# Altium footprint library Synthiam-new.PcbLib: 262 footprints (part 5 of 17)
Each footprint in its own frame and in the unit in brackets; x right, y up, seen from the top. Pads: shape width x height; smd on the part's side, far side on the other; paste and mask are expansions set on the pad; w line width, h text height; cw(c..) or ccw(c..) is an arc to the next point about the centre after c.
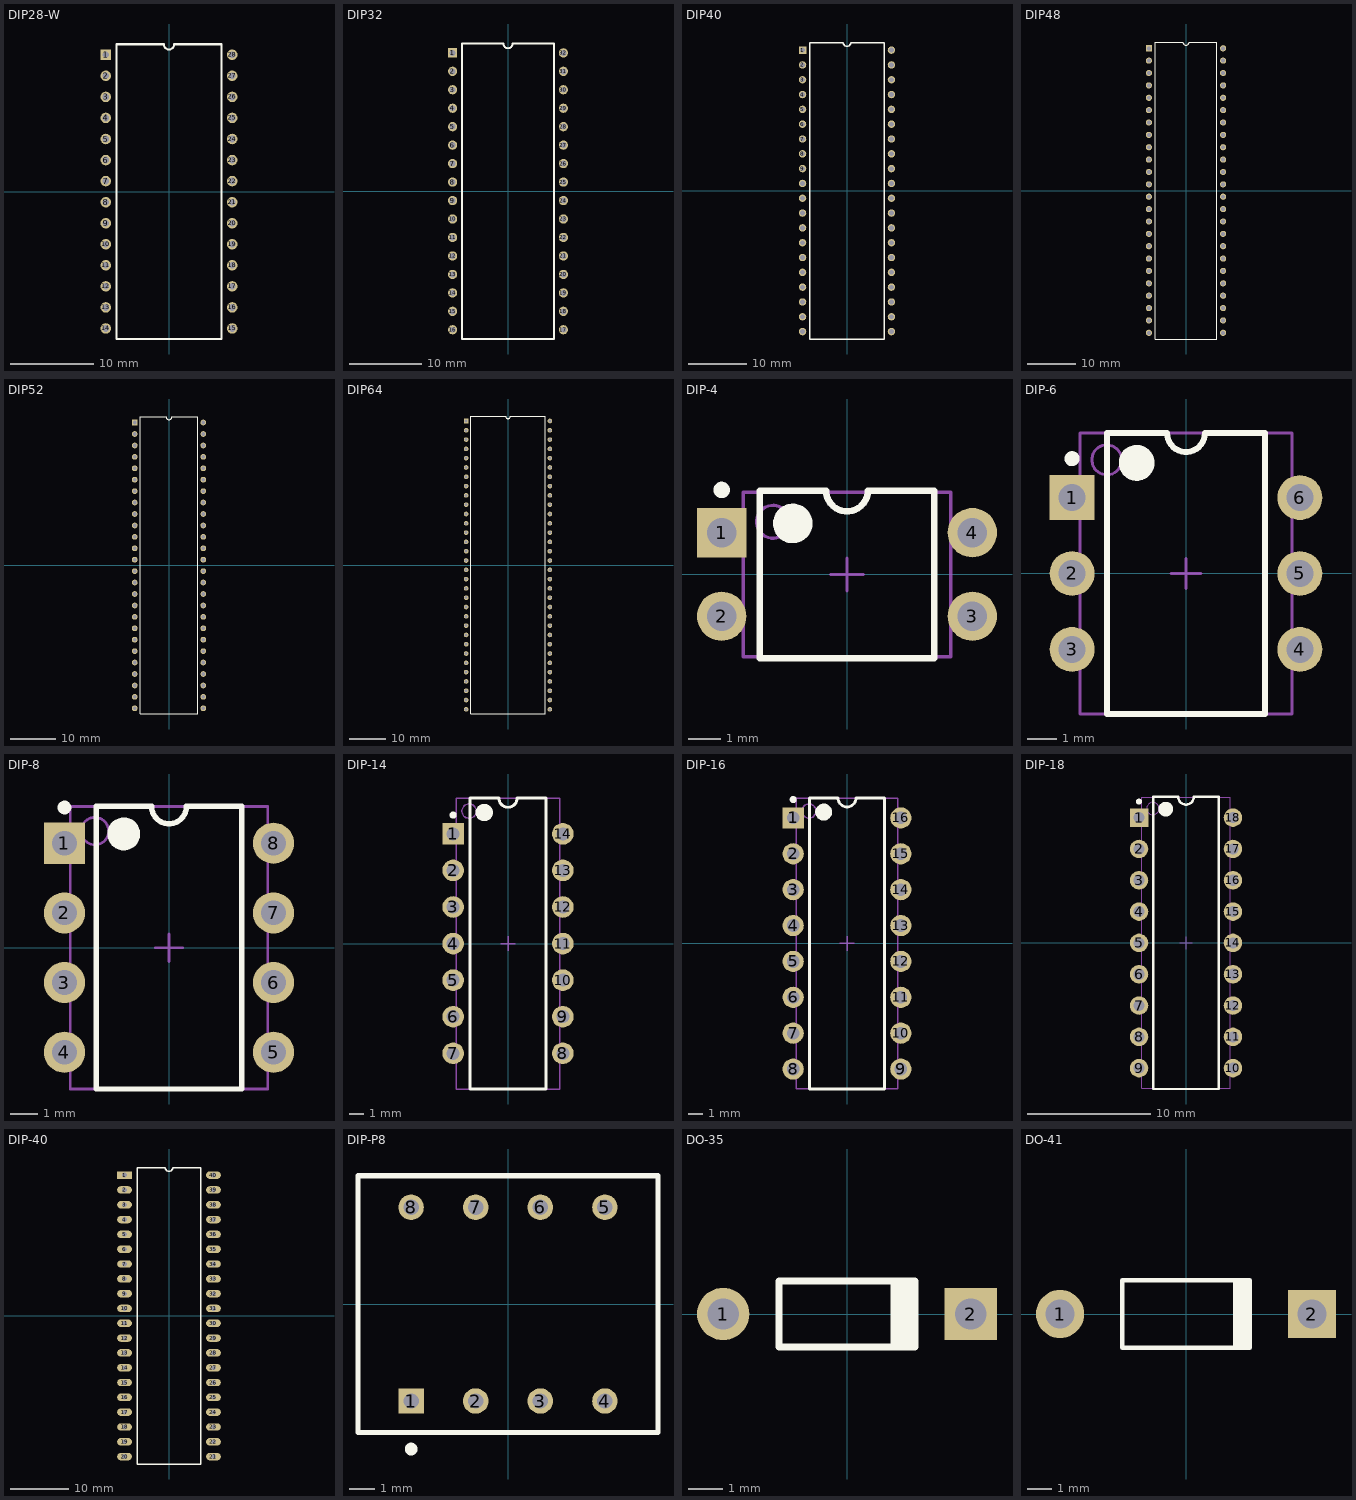
[diagram p4: the footprints below, top view; thin cyan lines are the x and y axes]

## DIP28-W [mil]
pads (28):
  rect 50x50 hole 32: 1(-300,650)
  round 50 hole 32: 2(-300,550) 3(-300,450) 4(-300,350) 5(-300,250) 6(-300,150) 7(-300,50) 8(-300,-50) 9(-300,-150) 10(-300,-250) 11(-300,-350) 12(-300,-450) 13(-300,-550) 14(-300,-650) 15(300,-650) 16(300,-550) 17(300,-450) 18(300,-350) 19(300,-250) 20(300,-150) 21(300,-50) 22(300,50) 23(300,150) 24(300,250) 25(300,350) 26(300,450) 27(300,550) 28(300,650)
Top Overlay:
  lines w10: -250,-700 250,-700 250,700 25,700 cw(c0,700) -25,700 -250,700 -250,-700

## DIP32 [mil]
pads (32):
  rect 50x50 hole 32: 1(-300,750)
  round 50 hole 32: 2(-300,650) 3(-300,550) 4(-300,450) 5(-300,350) 6(-300,250) 7(-300,150) 8(-300,50) 9(-300,-50) 10(-300,-150) 11(-300,-250) 12(-300,-350) 13(-300,-450) 14(-300,-550) 15(-300,-650) 16(-300,-750) 17(300,-750) 18(300,-650) 19(300,-550) 20(300,-450) 21(300,-350) 22(300,-250) 23(300,-150) 24(300,-50) 25(300,50) 26(300,150) 27(300,250) 28(300,350) 29(300,450) 30(300,550) 31(300,650) 32(300,750)
Top Overlay:
  lines w10: -250,-800 250,-800 250,800 25,800 cw(c0,800) -25,800 -250,800 -250,-800

## DIP40 [mil]
pads (40):
  rect 50x50 hole 32: 1(-300,950)
  round 50 hole 32: 2(-300,850) 3(-300,750) 4(-300,650) 5(-300,550) 6(-300,450) 7(-300,350) 8(-300,250) 9(-300,150) 10(-300,50) 11(-300,-50) 12(-300,-150) 13(-300,-250) 14(-300,-350) 15(-300,-450) 16(-300,-550) 17(-300,-650) 18(-300,-750) 19(-300,-850) 20(-300,-950) 21(300,-950) 22(300,-850) 23(300,-750) 24(300,-650) 25(300,-550) 26(300,-450) 27(300,-350) 28(300,-250) 29(300,-150) 30(300,-50) 31(300,50) 32(300,150) 33(300,250) 34(300,350) 35(300,450) 36(300,550) 37(300,650) 38(300,750) 39(300,850) 40(300,950)
Top Overlay:
  lines w10: -250,-1000 -250,1000 -25,1000 ccw(c0,1000) 25,1000 250,1000 250,-1000 -250,-1000

## DIP48 [mil]
pads (48):
  rect 50x50 hole 32: 1(-300,1150)
  round 50 hole 32: 2(-300,1050) 3(-300,950) 4(-300,850) 5(-300,750) 6(-300,650) 7(-300,550) 8(-300,450) 9(-300,350) 10(-300,250) 11(-300,150) 12(-300,50) 13(-300,-50) 14(-300,-150) 15(-300,-250) 16(-300,-350) 17(-300,-450) 18(-300,-550) 19(-300,-650) 20(-300,-750) 21(-300,-850) 22(-300,-950) 23(-300,-1050) 24(-300,-1150) 25(300,-1150) 26(300,-1050) 27(300,-950) 28(300,-850) 29(300,-750) 30(300,-650) 31(300,-550) 32(300,-450) 33(300,-350) 34(300,-250) 35(300,-150) 36(300,-50) 37(300,50) 38(300,150) 39(300,250) 40(300,350) 41(300,450) 42(300,550) 43(300,650) 44(300,750) 45(300,850) 46(300,950) 47(300,1050) 48(300,1150)
Top Overlay:
  lines w10: -250,-1200 250,-1200 250,1200 25,1200 cw(c0,1200) -25,1200 -250,1200 -250,-1200

## DIP52 [mil]
pads (52):
  rect 50x50 hole 32: 1(-300,1250)
  round 50 hole 32: 2(-300,1150) 3(-300,1050) 4(-300,950) 5(-300,850) 6(-300,750) 7(-300,650) 8(-300,550) 9(-300,450) 10(-300,350) 11(-300,250) 12(-300,150) 13(-300,50) 14(-300,-50) 15(-300,-150) 16(-300,-250) 17(-300,-350) 18(-300,-450) 19(-300,-550) 20(-300,-650) 21(-300,-750) 22(-300,-850) 23(-300,-950) 24(-300,-1050) 25(-300,-1150) 26(-300,-1250) 27(300,-1250) 28(300,-1150) 29(300,-1050) 30(300,-950) 31(300,-850) 32(300,-750) 33(300,-650) 34(300,-550) 35(300,-450) 36(300,-350) 37(300,-250) 38(300,-150) 39(300,-50) 40(300,50) 41(300,150) 42(300,250) 43(300,350) 44(300,450) 45(300,550) 46(300,650) 47(300,750) 48(300,850) 49(300,950) 50(300,1050) 51(300,1150) 52(300,1250)
Top Overlay:
  lines w10: -250,-1300 -250,1300 -25,1300 ccw(c0,1300) 25,1300 250,1300 250,-1300 -250,-1300

## DIP64 [mil]
pads (64):
  rect 50x50 hole 32: 1(-450,1550)
  round 50 hole 32: 2(-450,1450) 3(-450,1350) 4(-450,1250) 5(-450,1150) 6(-450,1050) 7(-450,950) 8(-450,850) 9(-450,750) 10(-450,650) 11(-450,550) 12(-450,450) 13(-450,350) 14(-450,250) 15(-450,150) 16(-450,50) 17(-450,-50) 18(-450,-150) 19(-450,-250) 20(-450,-350) 21(-450,-450) 22(-450,-550) 23(-450,-650) 24(-450,-750) 25(-450,-850) 26(-450,-950) 27(-450,-1050) 28(-450,-1150) 29(-450,-1250) 30(-450,-1350) 31(-450,-1450) 32(-450,-1550) 33(450,-1550) 34(450,-1450) 35(450,-1350) 36(450,-1250) 37(450,-1150) 38(450,-1050) 39(450,-950) 40(450,-850) 41(450,-750) 42(450,-650) 43(450,-550) 44(450,-450) 45(450,-350) 46(450,-250) 47(450,-150) 48(450,-50) 49(450,50) 50(450,150) 51(450,250) 52(450,350) 53(450,450) 54(450,550) 55(450,650) 56(450,750) 57(450,850) 58(450,950) 59(450,1050) 60(450,1150) 61(450,1250) 62(450,1350) 63(450,1450) 64(450,1550)
Top Overlay:
  lines w10: -400,-1600 -400,1600 -25,1600 ccw(c0,1600) 25,1600 400,1600 400,-1600 -400,-1600

## DIP-4 [mm]
pads (4):
  rect 1.5x1.5 hole 0.9: 1(-3.81,1.27)
  round 1.5 hole 0.9: 2(-3.81,-1.27) 3(3.81,-1.27) 4(3.81,1.27)
Top Overlay:
  circle w0.6: c-1.65,1.55 r0.3
  circle w0.25: c-3.81,2.57 r0.125
  lines w0.2: -2.65,-2.55 2.65,-2.55 2.65,2.55 0.635,2.55 cw(c0,2.55) -0.635,2.55 -2.65,2.55 -2.65,-2.55
Mechanical 13:
  circle w0.1: c-2.25,1.6 r0.5
  lines w0.1: -3.15,-2.5 3.15,-2.5 3.15,2.5 -3.15,2.5 -3.15,-2.5
Mechanical 15:
  lines w0.1: -0.5,0 0.5,0 ; 0,-0.5 0,0.5

## DIP-6 [mm]
pads (6):
  rect 1.5x1.5 hole 0.9: 1(-3.81,2.54)
  round 1.5 hole 0.9: 2(-3.81,0) 3(-3.81,-2.54) 4(3.81,-2.54) 5(3.81,0) 6(3.81,2.54)
Top Overlay:
  circle w0.6: c-1.65,3.7 r0.3
  circle w0.25: c-3.81,3.84 r0.125
  lines w0.2: -2.65,-4.7 2.65,-4.7 2.65,4.7 0.635,4.7 cw(c0,4.7) -0.635,4.7 -2.65,4.7 -2.65,-4.7
Mechanical 13:
  circle w0.1: c-2.65,3.8 r0.5
  lines w0.1: -3.55,-4.7 3.55,-4.7 3.55,4.7 -3.55,4.7 -3.55,-4.7
Mechanical 15:
  lines w0.1: -0.5,0 0.5,0 ; 0,-0.5 0,0.5

## DIP-8 [mm]
pads (8):
  rect 1.5x1.5 hole 0.9: 1(-3.81,3.81)
  round 1.5 hole 0.9: 2(-3.81,1.27) 3(-3.81,-1.27) 4(-3.81,-3.81) 5(3.81,-3.81) 6(3.81,-1.27) 7(3.81,1.27) 8(3.81,3.81)
Top Overlay:
  circle w0.25: c-3.81,5.11 r0.125
  circle w0.6: c-1.65,4.15 r0.3
  lines w0.2: -2.65,-5.15 -2.65,5.15 -0.635,5.15 ccw(c0,5.15) 0.635,5.15 2.65,5.15 2.65,-5.15 -2.65,-5.15
Mechanical 13:
  circle w0.1: c-2.7,4.25 r0.5
  lines w0.1: -3.6,-5.15 -3.6,5.15 3.6,5.15 3.6,-5.15 -3.6,-5.15
Mechanical 15:
  lines w0.1: -0.5,0 0.5,0 ; 0,-0.5 0,0.5

## DIP-14 [mm]
pads (14):
  rect 1.5x1.5 hole 0.9: 1(-3.81,7.62)
  round 1.5 hole 0.9: 2(-3.81,5.08) 3(-3.81,2.54) 4(-3.81,0) 5(-3.81,-2.54) 6(-3.81,-5.08) 7(-3.81,-7.62) 8(3.81,-7.62) 9(3.81,-5.08) 10(3.81,-2.54) 11(3.81,0) 12(3.81,2.54) 13(3.81,5.08) 14(3.81,7.62)
Top Overlay:
  circle w0.6: c-1.65,9.1 r0.3
  circle w0.25: c-3.81,8.92 r0.125
  lines w0.2: -2.65,-10.1 2.65,-10.1 2.65,10.1 0.635,10.1 cw(c0,10.1) -0.635,10.1 -2.65,10.1 -2.65,-10.1
Mechanical 13:
  circle w0.1: c-2.7,9.2 r0.5
  lines w0.1: -3.6,-10.1 3.6,-10.1 3.6,10.1 -3.6,10.1 -3.6,-10.1
Mechanical 15:
  lines w0.1: -0.5,0 0.5,0 ; 0,-0.5 0,0.5

## DIP-16 [mm]
pads (16):
  rect 1.5x1.5 hole 0.9: 1(-3.81,8.89)
  round 1.5 hole 0.9: 2(-3.81,6.35) 3(-3.81,3.81) 4(-3.81,1.27) 5(-3.81,-1.27) 6(-3.81,-3.81) 7(-3.81,-6.35) 8(-3.81,-8.89) 9(3.81,-8.89) 10(3.81,-6.35) 11(3.81,-3.81) 12(3.81,-1.27) 13(3.81,1.27) 14(3.81,3.81) 15(3.81,6.35) 16(3.81,8.89)
Top Overlay:
  circle w0.25: c-3.81,10.19 r0.125
  circle w0.6: c-1.65,9.3 r0.3
  lines w0.2: -2.65,-10.3 -2.65,10.3 -0.635,10.3 ccw(c0,10.3) 0.635,10.3 2.65,10.3 2.65,-10.3 -2.65,-10.3
Mechanical 13:
  circle w0.1: c-2.7,9.375 r0.5
  lines w0.1: -3.6,-10.275 -3.6,10.275 3.6,10.275 3.6,-10.275 -3.6,-10.275
Mechanical 15:
  lines w0.1: -0.5,0 0.5,0 ; 0,-0.5 0,0.5

## DIP-18 [mm]
pads (18):
  rect 1.5x1.5 hole 0.9: 1(-3.81,10.16)
  round 1.5 hole 0.9: 2(-3.81,7.62) 3(-3.81,5.08) 4(-3.81,2.54) 5(-3.81,0) 6(-3.81,-2.54) 7(-3.81,-5.08) 8(-3.81,-7.62) 9(-3.81,-10.16) 10(3.81,-10.16) 11(3.81,-7.62) 12(3.81,-5.08) 13(3.81,-2.54) 14(3.81,0) 15(3.81,2.54) 16(3.81,5.08) 17(3.81,7.62) 18(3.81,10.16)
Top Overlay:
  circle w0.25: c-3.81,11.46 r0.125
  circle w0.6: c-1.65,10.85 r0.3
  lines w0.2: -2.65,-11.85 -2.65,11.85 -0.635,11.85 ccw(c0,11.85) 0.635,11.85 2.65,11.85 2.65,-11.85 -2.65,-11.85
Mechanical 13:
  circle w0.1: c-2.7,10.9 r0.5
  lines w0.1: -3.6,-11.8 -3.6,11.8 3.6,11.8 3.6,-11.8 -3.6,-11.8
Mechanical 15:
  lines w0.1: -0.5,0 0.5,0 ; 0,-0.5 0,0.5

## DIP-40 [mil]
pads (40):
  rect 100x50 hole 32: 1(-300,950)
  oval 100x50 hole 32: 2(-300,850) 3(-300,750) 4(-300,650) 5(-300,550) 6(-300,450) 7(-300,350) 8(-300,250) 9(-300,150) 10(-300,50) 11(-300,-50) 12(-300,-150) 13(-300,-250) 14(-300,-350) 15(-300,-450) 16(-300,-550) 17(-300,-650) 18(-300,-750) 19(-300,-850) 20(-300,-950) 21(300,-950) 22(300,-850) 23(300,-750) 24(300,-650) 25(300,-550) 26(300,-450) 27(300,-350) 28(300,-250) 29(300,-150) 30(300,-50) 31(300,50) 32(300,150) 33(300,250) 34(300,350) 35(300,450) 36(300,550) 37(300,650) 38(300,750) 39(300,850) 40(300,950)
Top Overlay:
  lines w10: -215,-1000 215,-1000 215,1000 25,1000 cw(c0,1000) -25,1000 -215,1000 -215,-1000

## DIP-P8 [mm]
pads (8):
  rect 1x1 hole 0.6: 1(-3.81,-3.81)
  round 1 hole 0.6: 2(-1.27,-3.81) 3(1.27,-3.81) 4(3.81,-3.81) 5(3.81,3.81) 6(1.27,3.81) 7(-1.27,3.81) 8(-3.81,3.81)
Top Overlay:
  circle w0.25: c-3.81,-5.7 r0.125
  lines w0.2: -5.9,-5.05 -5.9,-0.635 -5.9,5.05 5.9,5.05 5.9,-5.05 -5.9,-5.05

## DO-35 [mm]
pads (2):
  round 1.5 hole 0.9: 1(-3.55,0)
  rect 1.5x1.5 hole 0.9: 2(3.55,0)
Top Overlay:
  rectangle: 1.25,-0.95 2.05,0.95
  lines w0.2: 1.95,-0.95 -1.95,-0.95 -1.95,0.95 1.95,0.95

## DO-41 [mm]
pads (2):
  round 2 hole 1.2: 1(-5.23,0)
  rect 2x2 hole 1.2: 2(5.23,0)
Top Overlay:
  rectangle: 1.95,-1.4 2.75,1.4
  lines w0.2: 2.65,-1.4 -2.65,-1.4 -2.65,1.4 2.65,1.4